# Altium schematic symbol library NRF51822-QFAC-T.SchLib: 1 symbol
Pins are listed as number, name and electrical type; pins without a type are passive.

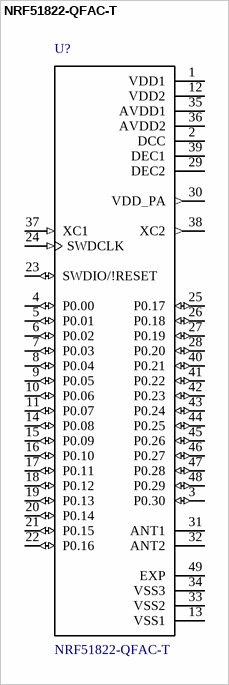
[diagram p0: symbol NRF51822-QFAC-T]

## NRF51822-QFAC-T
designator U?
SnapEDA_Link: https://www.snapeda.com/parts/NRF51822-QFAC-T/Nordic%20Semiconductor%20ASA/view-part/50058/?ref=snap; Value: *
footprint *QFN40P600X600X90-49N
pins: 1 VDD1 (power), 2 DCC (power), 3 P0.30 (io), 4 P0.00 (io), 5 P0.01 (io), 6 P0.02 (io), 7 P0.03 (io), 8 P0.04 (io), 9 P0.05 (io), 10 P0.06 (io), 11 P0.07 (io), 12 VDD2 (power), 13 VSS1 (power), 14 P0.08 (io), 15 P0.09 (io), 16 P0.10 (io), 17 P0.11 (io), 18 P0.12 (io), 19 P0.13 (io), 20 P0.14 (io), 21 P0.15 (io), 22 P0.16 (io), 23 SWDIO/!RESET (io), 24 SWDCLK (in), 25 P0.17 (io), 26 P0.18 (io), 27 P0.19 (io), 28 P0.20 (io), 29 DEC2 (power), 30 VDD_PA (out), 31 ANT1, 32 ANT2, 33 VSS2 (power), 34 VSS3 (power), 35 AVDD1 (power), 36 AVDD2 (power), 37 XC1 (in), 38 XC2 (out), 39 DEC1 (power), 40 P0.21 (io), 41 P0.22 (io), 42 P0.23 (io), 43 P0.24 (io), 44 P0.25 (io), 45 P0.26 (io), 46 P0.27 (io), 47 P0.28 (io), 48 P0.29 (io), 49 EXP (power)